# EAGLE library part RELAY_MINI_SIGNAL_SINGLE-COIL (library FlashPCB_Switches)
RELAY_MINI_SIGNAL - Minature Signal Relay Single Coil with double pole N.O. and N.C. contacts Technical Specifications: Single Coil 2 Pole Normally Open and Closed Contacts Component Search: EE2-4.5NUH-L <https://www.flashpcb.com/components> Datasheet: Miniature Signal Relays EC2/EE2 <https://connect.kemet.com:7667/gateway/IntelliData-ComponentDocumentation/1.0/download/datasheet/EE2-4.5NUH-L>
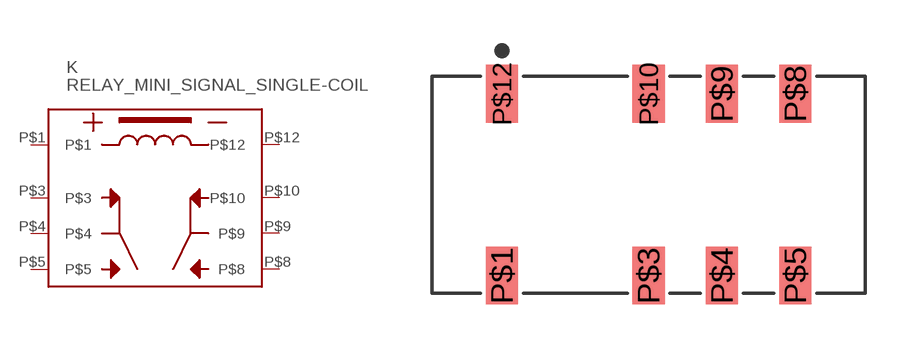
[diagram p2: symbol with the pads of EE2-NUH-L; footprint EE2-NUH-L]

Designator prefix K

## RELAY_MINI_SIGNAL_SINGLE-COIL  [EE2-NUH-L]
P$1  P$1
P$3  P$3
P$4  P$4
P$5  P$5
P$8  P$8
P$9  P$9
P$10  P$10
P$12  P$12

## Footprint EE2-NUH-L (pad centres in mm)
smd 1.11 x 2: P$1 -5.08,-3.145; P$3 0,-3.145; P$4 2.54,-3.145; P$5 5.08,-3.145; P$8 5.08,3.145; P$9 2.54,3.145; P$10 0,3.145; P$12 -5.08,3.145